# EAGLE library part 692622030100 (library USB3IO)
WR-COMMICRO USB 3.0 HORIZONTAL SMT TYPE B=>Code :Con_I-O_COM_MicroUSB_692622030100 <http://katalog.we-online.de/media/images/eican/Con_I-O_COM_MicroUSB_692622030100_pf2.jpg> Details see: http://katalog.we-online.de/en/em/692_622_030_100 Created 2014-07-09, Karrer Zheng 2014 (C) Würth Elektronik
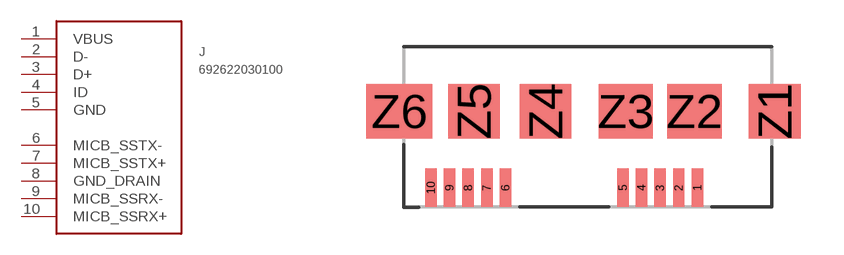
[diagram p88: symbol with the pads of 692622030100; footprint 692622030100]

Designator prefix J

## 692622030100  [692622030100]
1  VBUS
2  D-
3  D+
4  ID
5  GND
6  MICB_SSTX-
7  MICB_SSTX+
8  GND_DRAIN
9  MICB_SSRX-
10  MICB_SSRX+

## Footprint 692622030100 (pad centres in mm)
WR-COM MICRO USB 3.0 HORIZONTAL SMT TYPE B
smd 0.4 x 1.35: 1 3.95,-2.675; 2 3.3,-2.675; 3 2.65,-2.675; 4 2,-2.675; 5 1.35,-2.675; 6 -2.75,-2.675; 7 -3.4,-2.675; 8 -4.05,-2.675; 9 -4.7,-2.675; 10 -5.35,-2.675
smd 1.8 x 1.9: Z1 6.65,0; Z4 -1.35,0; Z5 -3.85,0
smd 1.9 x 1.9: Z2 3.85,0; Z3 1.45,0
smd 2.3 x 1.9: Z6 -6.45,0